# Altium footprint library CAPPOL-12x25.PcbLib: 1 footprints
Each footprint in its own frame and in the unit in brackets; x right, y up, seen from the top. Pads: shape width x height; smd on the part's side, far side on the other; paste and mask are expansions set on the pad; w line width, h text height; cw(c..) or ccw(c..) is an arc to the next point about the centre after c.
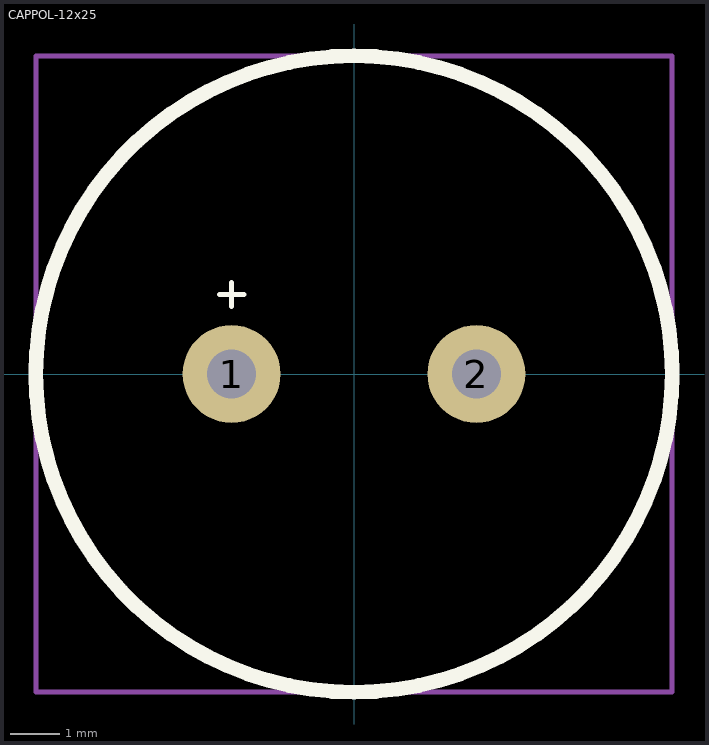
[diagram p0: the footprint, top view; thin cyan lines are the x and y axes]

## CAPPOL-12x25 [mm]
height 0.95
pads (2):
  round 2 hole 1: 1(-2.5,0) 2(2.5,0)
Top Overlay:
  circle w0.3: c0,0 r6.5
  lines w0.1: -2.75,1.625 -2.25,1.625 ; -2.5,1.375 -2.5,1.875
Top Assembly:
  lines w0.1: -6.5,-6.5 6.5,-6.5 6.5,6.5 -6.5,6.5 -6.5,-6.5
  text "'.Designator'" at -0.925,-0.325 h0.7
3D body "User Library-Cap-EL(12_5x25-5).STEP": height 25, standoff -3.3, extent -6.25,-6.25 6.252,6.25